# Altium schematic symbol library Resistor.SchLib: 1 symbol
Pins are listed as number, name and electrical type; pins without a type are passive.

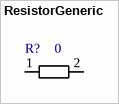
[diagram p0: symbol ResistorGeneric]

## ResistorGeneric
designator R?, comment 0
Tolerance: 5%; TCR: 100ppm/K; Description-ru: Резистор; Description-en: Resistor; Power: 100mW; Value: 0; Manufacturers: ?
pins: 1, 2